# Altium schematic symbol library DX07S016JA1R1500.SchLib: 1 symbol
Pins are listed as number, name and electrical type; pins without a type are passive.

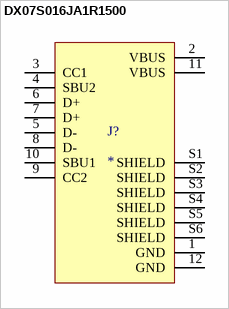
[diagram p0: symbol DX07S016JA1R1500]

## DX07S016JA1R1500
designator J?
pins: 1 GND (power), 2 VBUS (power), 3 CC1, 4 SBU2, 5 D-, 6 D+, 7 D+, 8 D-, 9 CC2, 10 SBU1, 11 VBUS (power), 12 GND (power), S1 SHIELD, S2 SHIELD, S3 SHIELD, S4 SHIELD, S5 SHIELD, S6 SHIELD